# Altium footprint library SC70-4.PcbLib: 1 footprints
Each footprint in its own frame and in the unit in brackets; x right, y up, seen from the top. Pads: shape width x height; smd on the part's side, far side on the other; paste and mask are expansions set on the pad; w line width, h text height; cw(c..) or ccw(c..) is an arc to the next point about the centre after c.
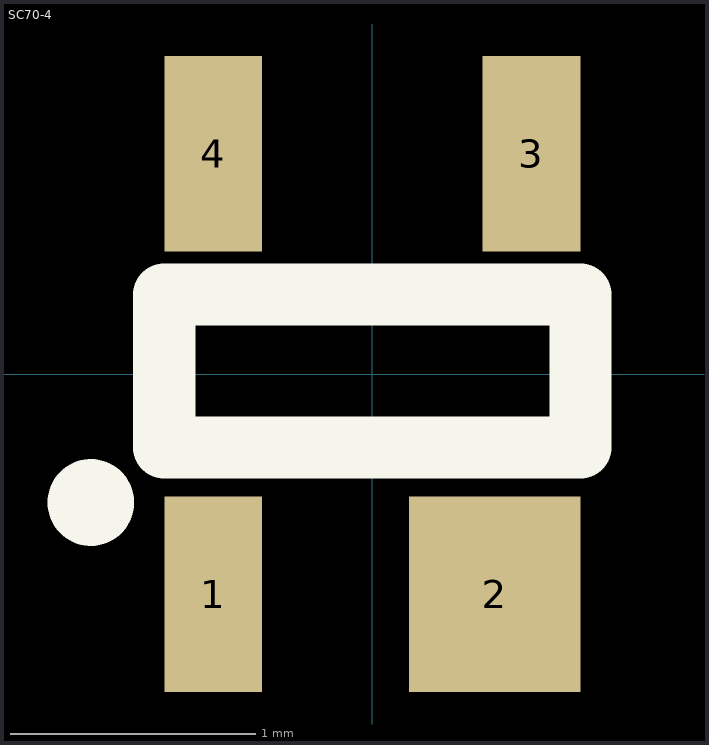
[diagram p0: the footprint, top view; thin cyan lines are the x and y axes]

## SC70-4 [mm]
height 1.45
pads (4):
  rect 0.4x0.8 smd: 1(-0.65,-0.9) 3(0.65,0.9) 4(-0.65,0.9)
  rect 0.7x0.8 smd: 2(0.5,-0.9)
Top Overlay:
  circle w0.254: c-1.15,-0.525 r0.05
  lines w0.254: -0.85,-0.3 0.85,-0.3 0.85,0.325 -0.85,0.325 -0.85,-0.3
3D body: height 1.05, standoff -0.05, extent -1,-1.1 1,1.1